# Altium schematic symbol library 15400385A3590.SchLib: 1 symbol
Pins are listed as number, name and electrical type; pins without a type are passive.

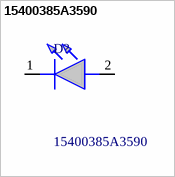
[diagram p0: symbol 15400385A3590]

## 15400385A3590
designator D?
WURTH ELEKTRONIK - 15400385A3590 - Infrared Emitter, 850 nm, 35 , T-1 (3mm), 60 mW/Sr; Geometry.Height: 10.9mm; Manufacturer_Name: Wurth Elektronik; Manufacturer_Part_Number: 15400385A3590; Mouser Part Number: 710-15400385A3590; Mouser Price/Stock: https://www.mouser.co.uk/ProductDetail/Wurth-Elektronik/15400385A3590?qs=5aG0NVq1C4yszs1ddn0oOg%3D%3D; Arrow Part Number: *; Arrow Price/Stock: *; Mouser Testing Part Number: *; Mouser Testing Price/Stock: *; Datasheet Link: https://www.we-online.com/katalog/datasheet/15400385A3590.pdf
footprint 15400385A3590
pins: 1 K, 2 A